# EAGLE library part 62001011622 (library Wire-to-Board (rev18a))
WR-WTB 2.00mm Male Vertical Shrouded Header, 10 Pins=>Code : Con_WTB_2.00_PCB_THT_62001011622 <http://katalog.we-online.de/media/thumbs2/eican/thb_Con_WTB_2.00_PCB_THT_6200xx11622_pf2.jpg> Details see: http://katalog.we-online.de/en/em/WTB_2_00_MALE_VERTICAL_SHROUDED_HEADER_6200XX11622 Created 2014-06-05, Karrer Zheng 2014 (C) Würth Elektronik
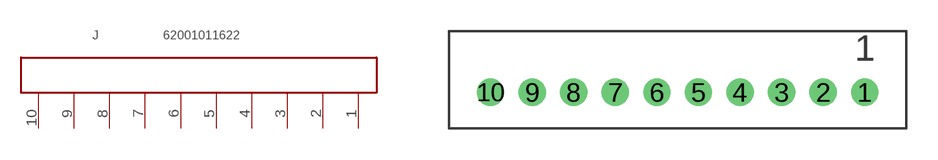
[diagram p29: symbol with the pads of 62001011622; footprint 62001011622]

Designator prefix J

## 62001011622  [62001011622]
1  1  pas
2  2  pas
3  3  pas
4  4  pas
5  5  pas
6  6  pas
7  7  pas
8  8  pas
9  9  pas
10  10  pas

## Footprint 62001011622 (pad centres in mm)
WR-WTB 2.00mm Male Vertical Shrouded Header, 10 Pins
drill 0.8: 1 9,0; 2 7,0; 3 5,0; 4 3,0; 5 1,0; 6 -1,0; 7 -3,0; 8 -5,0; 9 -7,0; 10 -9,0